# Altium footprint library STM32VET6.PcbLib: 35 footprints (part 3 of 3)
Each footprint in its own frame and in the unit in brackets; x right, y up, seen from the top. Pads: shape width x height; smd on the part's side, far side on the other; paste and mask are expansions set on the pad; w line width, h text height; cw(c..) or ccw(c..) is an arc to the next point about the centre after c.
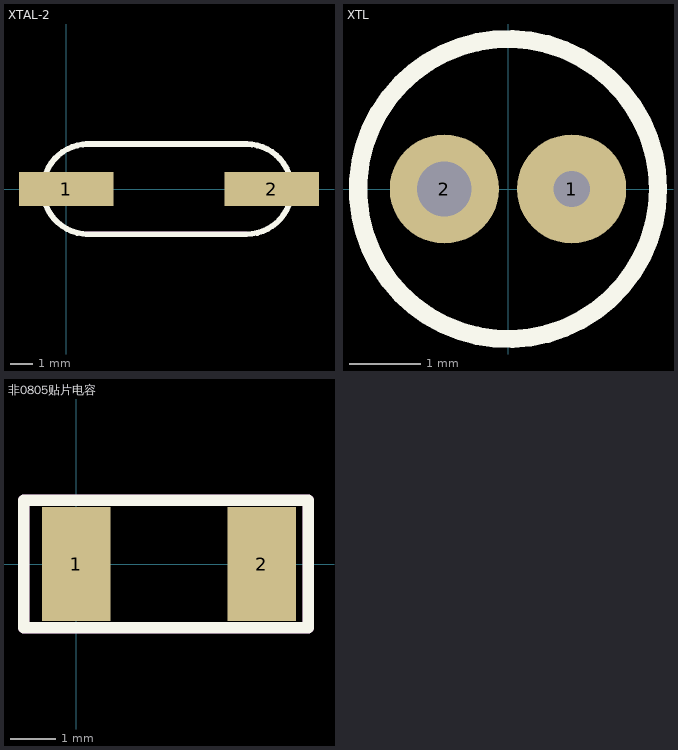
[diagram p2: the footprints below, top view; thin cyan lines are the x and y axes]

## XTAL-2 [mm]
pads (2):
  rect 4.2x1.5 smd: 1(0,0) 2(9.119,0)
Top Overlay:
  lines w0.254: 0.965,-2.007 cw(c0.965,-0.007) 0.965,1.993 ; 8.001,-2.007 ccw(c8.001,-0.007) 8.001,1.993
Top Overlay keep-out:
  lines w0.254: 0.889,-2.007 7.976,-2.007 ; 0.889,1.993 8.026,1.993

## XTL [mil]
pads (2):
  round 60 hole 20: 1(35,0)
  round 60 hole 30: 2(-35,0)
Top Overlay:
  circle w10: c0,0 r82.46

## 非0805贴片电容 [mm]
pads (2):
  rect 1.5x2.5 smd: 1(0,0) 2(4.064,0)
Top Overlay keep-out:
  lines w0.254: -1.143,-1.397 -1.143,1.397 5.08,1.397 5.08,-1.397 -1.143,-1.397